# Altium schematic symbol library transistors_other.SchLib: 2 symbols
Pins are listed as number, name and electrical type; pins without a type are passive.

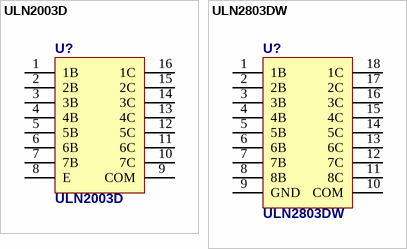
[diagram p0: symbols ULN2003D to ULN2803DW]

## ULN2003D
designator U?
High-Voltage, High-Current Darlington Transistor Array; Supplier 1: Farnell; Supplier 2: Farnell; Supplier 3: Farnell; Supplier 4: Farnell; Supplier 5: Farnell; Supplier 6: Farnell; Supplier 7: Farnell; Supplier 8: Farnell; Supplier 9: Farnell; Supplier 10: TME; Supplier 11: Farnell; Supplier Part Number 1: 1236608; Supplier Part Number 2: 2335705; Supplier Part Number 3: 1652418; Supplier Part Number 4: 1468981; Supplier Part Number 5: 9493956; Supplier Part Number 6: 1470513; Supplier Part Number 7: 1125398; Supplier Part Number 8: 1467825; Supplier Part Number 9: 9664378; Supplier Part Number 10: ULN2003D1013TR; Supplier Part Number 11: 1494948
footprint SO16 (Small Outline; 16 Leads; Body Width 3.9 mm; Pitch 1.27 mm)
pins: 1 1B, 2 2B, 3 3B, 4 4B, 5 5B, 6 6B, 7 7B, 8 E, 9 COM, 10 7C, 11 6C, 12 5C, 13 4C, 14 3C, 15 2C, 16 1C

## ULN2803DW
designator U?
High-Voltage, High-Current Darlington Transistor Array; Supplier 1: Farnell; Supplier 2: Farnell; Supplier 3: Farnell; Supplier 4: Farnell; Supplier 5: Farnell; Supplier 6: TME; Supplier 7: TME; Supplier Part Number 1: 1652422; Supplier Part Number 2: 1652419; Supplier Part Number 3: 2362172; Supplier Part Number 4: 2437971; Supplier Part Number 5: 1652420; Supplier Part Number 6: ULN2803A-SMD; Supplier Part Number 7: ULN2803ADW
footprint SO18W
pins: 1 1B, 2 2B, 3 3B, 4 4B, 5 5B, 6 6B, 7 7B, 8 8B, 9 GND, 10 COM, 11 8C, 12 7C, 13 6C, 14 5C, 15 4C, 16 3C, 17 2C, 18 1C